# Altium schematic symbol library AU9254.SchLib: 9 symbols
Pins are listed as number, name and electrical type; pins without a type are passive.

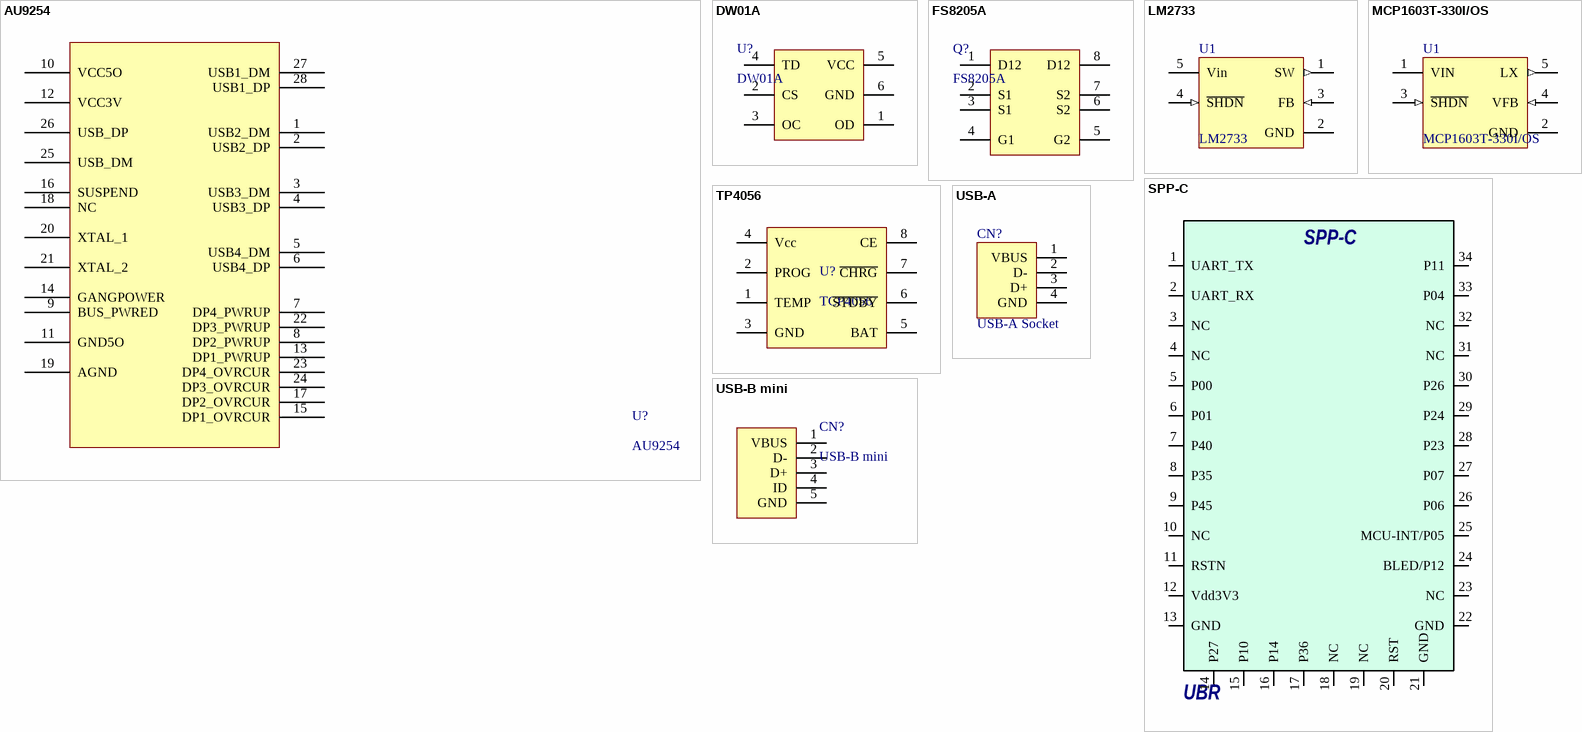
[diagram p0: symbols AU9254 to USB-B mini]

## AU9254
designator U?
pins: 1 USB2_DM, 2 USB2_DP, 3 USB3_DM, 4 USB3_DP, 5 USB4_DM, 6 USB4_DP, 7 DP4_PWRUP, 8 DP2_PWRUP, 9 BUS_PWRED, 10 VCC5O, 11 GND5O, 12 VCC3V, 13 DP1_PWRUP, 14 GANGPOWER, 15 DP1_OVRCUR, 16 SUSPEND, 17 DP2_OVRCUR, 18 NC, 19 AGND, 20 XTAL_1, 21 XTAL_2, 22 DP3_PWRUP, 23 DP4_OVRCUR, 24 DP3_OVRCUR, 25 USB_DM, 26 USB_DP, 27 USB1_DM, 28   USB1_DP

## DW01A
designator U?
footprint SOT23_6 (SOT23, 6-Leads, Body 2.90x2.80mm, Pitch 0.95mm, IPC Medium Density)
pins: 1 OD, 2 CS, 3 OC, 4 TD, 5 VCC, 6 GND

## FS8205A
designator Q?
footprint TSSOP8 (TSOP, 8-Leads, Body 3.00x2.95mm, Pitch 0.65mm, IPC Medium Density)
pins: 1 D12, 2 S1, 3 S1, 4 G1, 5 G2, 6 S2, 7 S2, 8 D12

## LM2733
designator U1
0.6/1.6 MHz Boost Converters With 40V Internal FET Switch; Published: 29-Jan-2009; DatasheetVersion: revA, May-2007; PackageVersion: revBB, Aug-2009; PackageReference: TSOT-OS5; Publisher: Altium Limited; PackageDescription: 5-Lead Plastic Small Outline Transistor (OS) [TSOT]; Supplier Part Number 1: MCP1603T-330I/OSTR-ND; Supplier 2: Digi-Key; Supplier Part Number 2: MCP1603T-330I/OSCT-ND; Supplier 3: Digi-Key; Supplier Part Number 3: MCP1603T-330I/OSDKR-ND; Supplier 4: Farnell; Supplier Part Number 4: 1439373; ComponentLink1Description: Datasheet; ComponentLink1URL: http://ww1.microchip.com/downloads/en/DeviceDoc/22042a.pdf; ComponentLink2Description: Packaging Specification; ComponentLink2URL: http://www.microchip.com/stellent/groups/techpub_sg/documents/packagingspec/en012702.pdf
footprint SOT23_5 (SOT23, 5-Leads, Body 2.90x2.80mm, Pitch 0.95mm, IPC Medium Density)
pins: 1 SW (out), 2 GND (power), 3 FB (in), 4 ~{SHDN} (in), 5 Vin (power)

## MCP1603T-330I/OS
designator U1
500mA Synchronous Buck Regulator, 3.3V, 2.0 MHz, 5-Pin TSOT, Industrial Temperature, Tape and Reel; Published: 29-Jan-2009; DatasheetVersion: revA, May-2007; PackageVersion: revBB, Aug-2009; PackageReference: TSOT-OS5; Publisher: Altium Limited; PackageDescription: 5-Lead Plastic Small Outline Transistor (OS) [TSOT]; Supplier 1: Digi-Key; Supplier Part Number 1: MCP1603T-330I/OSTR-ND; Supplier 2: Digi-Key; Supplier Part Number 2: MCP1603T-330I/OSCT-ND; Supplier 3: Digi-Key; Supplier Part Number 3: MCP1603T-330I/OSDKR-ND; Supplier 4: Farnell; Supplier Part Number 4: 1439373; ComponentLink1Description: Datasheet; ComponentLink1URL: http://ww1.microchip.com/downloads/en/DeviceDoc/22042a.pdf; ComponentLink2Description: Packaging Specification; ComponentLink2URL: http://www.microchip.com/stellent/groups/techpub_sg/documents/packagingspec/en012702.pdf
footprint TSOT-OS5_N (SOT23, 5-Leads, Body 2.9x1.6mm, Pitch 0.95mm, Lead Span 2.8mm, IPC Medium Density)
footprint TSOT-OS5_L (SOT23, 5-Leads, Body 2.9x1.6mm, Pitch 0.95mm, Lead Span 2.8mm, IPC High Density)
footprint TSOT-OS5_M (SOT23, 5-Leads, Body 2.9x1.6mm, Pitch 0.95mm, Lead Span 2.8mm, IPC Low Density)
footprint SOT23_5 (SOT23, 5-Leads, Body 2.90x2.80mm, Pitch 0.95mm, IPC Medium Density)
pins: 1 VIN (power), 2 GND (power), 3 ~{SHDN} (in), 4 VFB (in), 5 LX (out)

## SPP-C
designator UBR  (value not drawn)
Bluetooth Module
footprint SPP-C (Bluetooth Module)
pins: 1 UART_TX, 2 UART_RX, 3 NC, 4 NC, 5 P00, 6 P01, 7 P40, 8 P35, 9 P45, 10 NC, 11 RSTN, 12 Vdd3V3 (power), 13 GND (power), 14 P27, 15 P10, 16 P14, 17 P36, 18 NC, 19 NC, 20 RST, 21 GND (power), 22 GND (power), 23 NC, 24 BLED/P12, 25 MCU-INT/P05, 26 P06, 27 P07, 28 P23, 29 P24, 30 P26, 31 NC, 32 NC, 33 P04, 34 P11

## TP4056
designator U?, comment TCP4056
footprint SO8
pins: 1 TEMP, 2 PROG, 3 GND (power), 4 Vcc (power), 5 BAT (power), 6 ~{STDBY} (oc), 7 ~{CHRG} (oc), 8 CE

## USB-A
designator CN?, comment USB-A Socket
USB 1.1, Right Angle, SMT, A Type, Plug, 4 Position, Black; ContactMaterial: Brass; ContactPlating: Gold (30) over Nickel (50); PCB_Layout: Complies with manufacturer's recommendation.; DrillSize: Corresponds to nominal value.; PanelGround: Without; Published: 15-Jul-2004; DatasheetDocument: 21-Jan-2003; PackageDocument: 21-Jan-2003; PackageReference: 1470695; Publisher: Altium Limited; HousingMaterial: Thermoplastic; ComponentLink1Description: Manufacturer Link; ComponentLink1URL: http://www.tycoelectronics.com/; ComponentLink2Description: Packaging Specification; ComponentLink2URL: http://ecommas.tycoelectronics.com/commerce/DocumentDelivery/DDEController?Action=showdoc&DocId=Customer+Drawing%7F1470695%7FO%7Fpdf%7FEnglish%7FC_1470695_O.pdf
footprint 1470695 (Connector; USB1.1, Type A, SM; 4 Position; Right Angle)
signal-integrity model USB1.1
pins: 1 VBUS (power) "Power", 2 D- "-DATA", 3 D+ "+DATA", 4 GND (power) "Ground"

## USB-B mini
designator CN?
footprint USB_micro-B
pins: 1 VBUS, 2 D-, 3 D+, 4 ID, 5 GND